# EAGLE library part TPS25740B (library ruark2)
USB, Type-C Controller PMIC 24-VQFN (4x4)
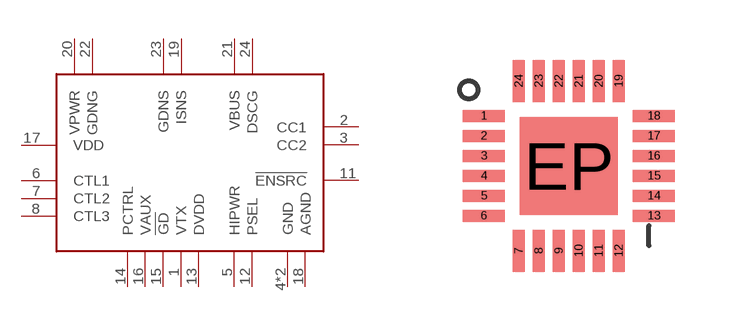
[diagram p153: symbol with the pads of QFN24-44_TI; footprint QFN24-44_TI]

Designator prefix U

## TPS25740B (PARTNO: 296-50077-1-ND)  [QFN24-44_TI]
1  VTX
2  CC1
3  CC2
4  GND
5  HIPWR
6  CTL1
7  CTL2
8  CTL3
11  !ENSRC
12  PSEL
13  DVDD
14  PCTRL
15  !GD
16  VAUX
17  VDD
18  AGND
19  ISNS
20  VPWR
21  VBUS
22  GDNG
23  GDNS
24  DSCG
EP  GND

## Footprint QFN24-44_TI (pad centres in mm)
smd 1.05 x 0.3: 1 -2.125,1.25; 2 -2.125,0.75; 3 -2.125,0.25; 4 -2.125,-0.25; 5 -2.125,-0.75; 6 -2.125,-1.25; 13 2.125,-1.25; 14 2.125,-0.75; 15 2.125,-0.25; 16 2.125,0.25; 17 2.125,0.75; 18 2.125,1.25
smd 0.3 x 1.05: 7 -1.25,-2.125; 8 -0.75,-2.125; 9 -0.25,-2.125; 10 0.25,-2.125; 11 0.75,-2.125; 12 1.25,-2.125; 19 1.25,2.125; 20 0.75,2.125; 21 0.25,2.125; 22 -0.25,2.125; 23 -0.75,2.125; 24 -1.25,2.125
smd 2.45 x 2.45: EP 0,0